# Altium schematic symbol library REDCUBE_10PIN.SchLib: 1 symbol
Pins are listed as number, name and electrical type; pins without a type are passive.

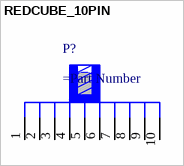
[diagram p0: symbol REDCUBE_10PIN]

## REDCUBE_10PIN
designator P?
=Description; ComponentLink1Description: Datasheet; ComponentLink1URL: https://www.mouser.ca/datasheet/2/445/61304011121-1718151.pdf
pins: 1, 2, 3, 4, 5, 6, 7, 8, 9, 10